# Altium footprint library FUSE1812.PcbLib: 1 footprints
Each footprint in its own frame and in the unit in brackets; x right, y up, seen from the top. Pads: shape width x height; smd on the part's side, far side on the other; paste and mask are expansions set on the pad; w line width, h text height; cw(c..) or ccw(c..) is an arc to the next point about the centre after c.
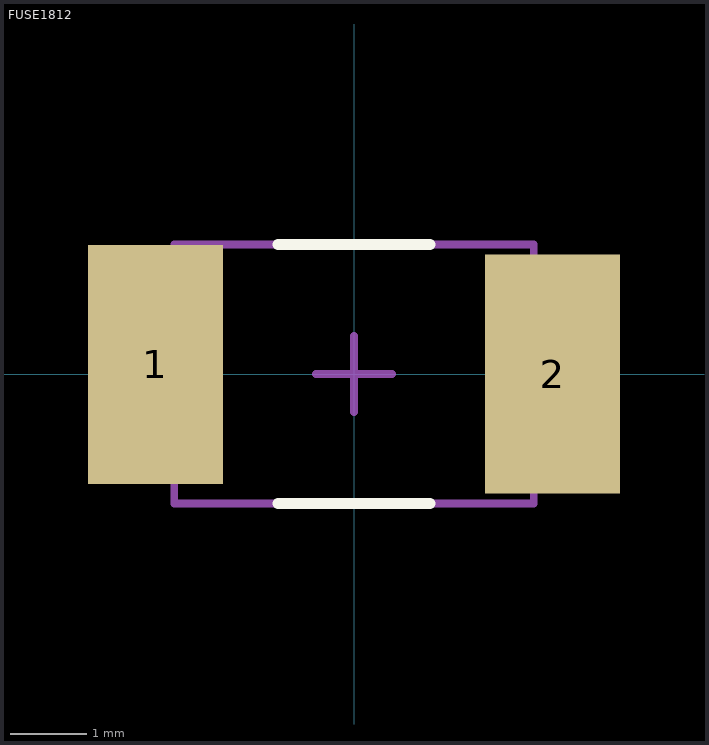
[diagram p0: the footprint, top view; thin cyan lines are the x and y axes]

## FUSE1812 [mm]
height 1.25
pads (2):
  rect 1.78x3.15 smd: 1(-2.615,0.127) 2(2.615,0)
Top Overlay:
  lines w0.15: -1,-1.705 1,-1.705 ; -1,1.705 1,1.705
Mechanical 13:
  lines w0.1: -2.365,-1.705 2.365,-1.705 2.365,1.705 -2.365,1.705 -2.365,-1.705
Mechanical 15:
  lines w0.1: -0.5,0 0.5,0 ; 0,-0.5 0,0.5
3D body: height 1.03, standoff 0, extent -2.365,-1.613 2.37,1.867